# Altium footprint library Resistor_THT.PcbLib: 104 footprints (part 1 of 7)
Each footprint in its own frame and in the unit in brackets; x right, y up, seen from the top. Pads: shape width x height; smd on the part's side, far side on the other; paste and mask are expansions set on the pad; w line width, h text height; cw(c..) or ccw(c..) is an arc to the next point about the centre after c.
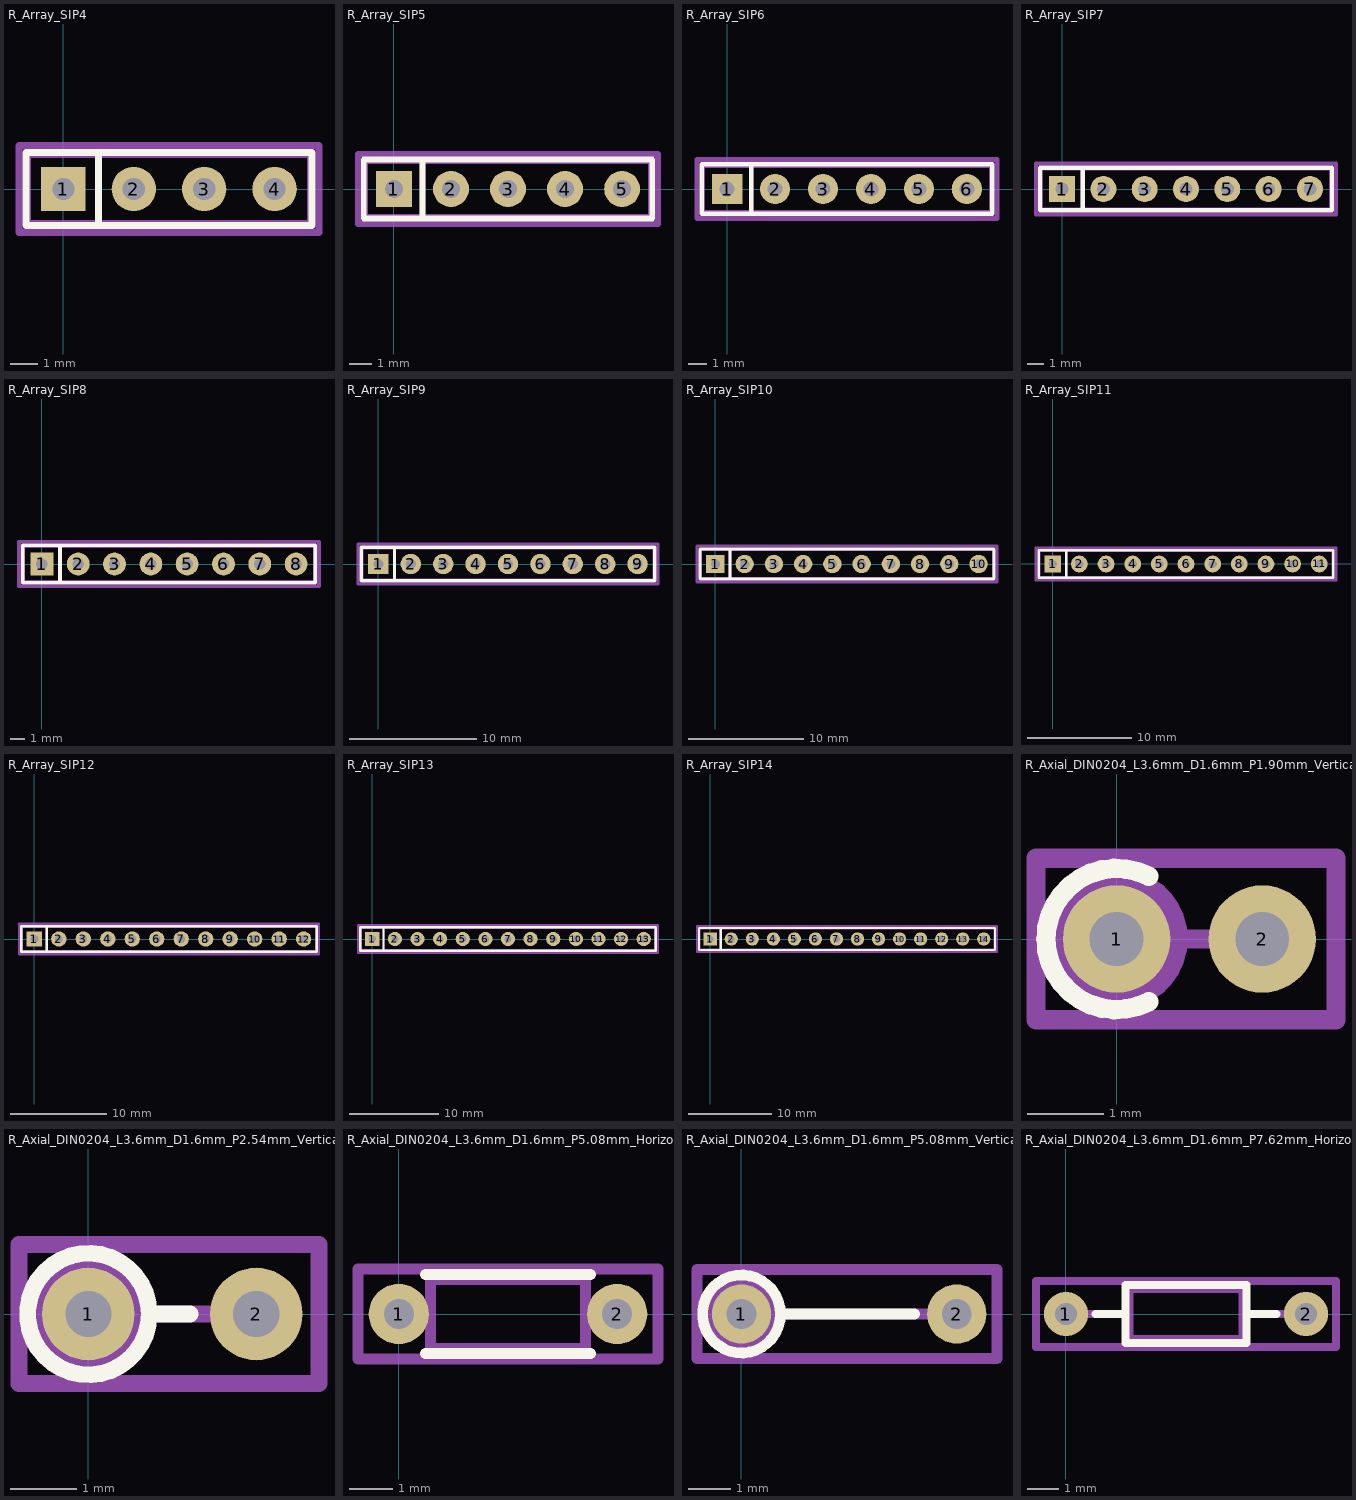
[diagram p0: the footprints below, top view; thin cyan lines are the x and y axes]

## R_Array_SIP4 [mm]
pads (4):
  rect 1.6x1.6 hole 0.8: 1(0,0)
  round 1.6 hole 0.8: 2(2.54,0) 3(5.08,0) 4(7.62,0)
F.SilkS:
  lines w0.254: 1.27,-1.31 1.27,1.31 ; -1.35,-1.31 -1.35,1.31 8.97,1.31 8.97,-1.31 -1.35,-1.31
F.Fab:
  lines w0.254: 1.27,-1.25 1.27,1.25 ; -1.29,-1.25 -1.29,1.25 8.91,1.25 8.91,-1.25 -1.29,-1.25
  text "'.Designator'" at 1.033,-0.84 h1
F.CrtYd:
  lines w0.254: -1.6,-1.56 -1.6,1.56 9.22,1.56 9.22,-1.56 -1.6,-1.56
3D body "R_Array_SIP4.step": height 5.3, standoff -3, extent -1.27,-1.26 8.89,1.25

## R_Array_SIP5 [mm]
pads (5):
  rect 1.6x1.6 hole 0.8: 1(0,0)
  round 1.6 hole 0.8: 2(2.54,0) 3(5.08,0) 4(7.62,0) 5(10.16,0)
F.SilkS:
  lines w0.254: 1.27,-1.31 1.27,1.31 ; -1.35,-1.31 -1.35,1.31 11.51,1.31 11.51,-1.31 -1.35,-1.31
F.Fab:
  lines w0.254: 1.27,-1.25 1.27,1.25 ; -1.29,-1.25 -1.29,1.25 11.45,1.25 11.45,-1.25 -1.29,-1.25
  text "'.Designator'" at 2.303,-0.84 h1
F.CrtYd:
  lines w0.254: -1.6,-1.56 -1.6,1.56 11.76,1.56 11.76,-1.56 -1.6,-1.56
3D body "R_Array_SIP5.step": height 5.3, standoff -3, extent -1.27,-1.26 11.43,1.25

## R_Array_SIP6 [mm]
pads (6):
  rect 1.6x1.6 hole 0.8: 1(0,0)
  round 1.6 hole 0.8: 2(2.54,0) 3(5.08,0) 4(7.62,0) 5(10.16,0) 6(12.7,0)
F.SilkS:
  lines w0.254: 1.27,-1.31 1.27,1.31 ; -1.35,-1.31 -1.35,1.31 14.05,1.31 14.05,-1.31 -1.35,-1.31
F.Fab:
  lines w0.254: 1.27,-1.25 1.27,1.25 ; -1.29,-1.25 -1.29,1.25 13.99,1.25 13.99,-1.25 -1.29,-1.25
  text "'.Designator'" at 3.573,-0.84 h1
F.CrtYd:
  lines w0.254: -1.6,-1.56 -1.6,1.56 14.3,1.56 14.3,-1.56 -1.6,-1.56
3D body "R_Array_SIP6.step": height 5.3, standoff -3, extent -1.27,-1.26 13.97,1.25

## R_Array_SIP7 [mm]
pads (7):
  rect 1.6x1.6 hole 0.8: 1(0,0)
  round 1.6 hole 0.8: 2(2.54,0) 3(5.08,0) 4(7.62,0) 5(10.16,0) 6(12.7,0) 7(15.24,0)
F.SilkS:
  lines w0.254: 1.27,-1.31 1.27,1.31 ; -1.35,-1.31 -1.35,1.31 16.59,1.31 16.59,-1.31 -1.35,-1.31
F.Fab:
  lines w0.254: 1.27,-1.25 1.27,1.25 ; -1.29,-1.25 -1.29,1.25 16.53,1.25 16.53,-1.25 -1.29,-1.25
  text "'.Designator'" at 4.843,-0.84 h1
F.CrtYd:
  lines w0.254: -1.6,-1.56 -1.6,1.56 16.84,1.56 16.84,-1.56 -1.6,-1.56
3D body "R_Array_SIP7.step": height 5.3, standoff -3, extent -1.27,-1.26 16.51,1.25

## R_Array_SIP8 [mm]
pads (8):
  rect 1.6x1.6 hole 0.8: 1(0,0)
  round 1.6 hole 0.8: 2(2.54,0) 3(5.08,0) 4(7.62,0) 5(10.16,0) 6(12.7,0) 7(15.24,0) 8(17.78,0)
F.SilkS:
  lines w0.254: 1.27,-1.31 1.27,1.31 ; -1.35,-1.31 -1.35,1.31 19.13,1.31 19.13,-1.31 -1.35,-1.31
F.Fab:
  lines w0.254: 1.27,-1.25 1.27,1.25 ; -1.29,-1.25 -1.29,1.25 19.07,1.25 19.07,-1.25 -1.29,-1.25
  text "'.Designator'" at 6.113,-0.84 h1
F.CrtYd:
  lines w0.254: -1.6,-1.56 -1.6,1.56 19.38,1.56 19.38,-1.56 -1.6,-1.56
3D body "R_Array_SIP8.step": height 5.3, standoff -3, extent -1.27,-1.26 19.05,1.25

## R_Array_SIP9 [mm]
pads (9):
  rect 1.6x1.6 hole 0.8: 1(0,0)
  round 1.6 hole 0.8: 2(2.54,0) 3(5.08,0) 4(7.62,0) 5(10.16,0) 6(12.7,0) 7(15.24,0) 8(17.78,0) 9(20.32,0)
F.SilkS:
  lines w0.254: 1.27,-1.31 1.27,1.31 ; -1.35,-1.31 -1.35,1.31 21.67,1.31 21.67,-1.31 -1.35,-1.31
F.Fab:
  lines w0.254: 1.27,-1.25 1.27,1.25 ; -1.29,-1.25 -1.29,1.25 21.61,1.25 21.61,-1.25 -1.29,-1.25
  text "'.Designator'" at 7.383,-0.84 h1
F.CrtYd:
  lines w0.254: -1.6,-1.56 -1.6,1.56 21.92,1.56 21.92,-1.56 -1.6,-1.56
3D body "R_Array_SIP9.step": height 5.3, standoff -3, extent -1.27,-1.26 21.59,1.25

## R_Array_SIP10 [mm]
pads (10):
  rect 1.6x1.6 hole 0.8: 1(0,0)
  round 1.6 hole 0.8: 2(2.54,0) 3(5.08,0) 4(7.62,0) 5(10.16,0) 6(12.7,0) 7(15.24,0) 8(17.78,0) 9(20.32,0) 10(22.86,0)
F.SilkS:
  lines w0.254: 1.27,-1.31 1.27,1.31 ; -1.35,-1.31 -1.35,1.31 24.21,1.31 24.21,-1.31 -1.35,-1.31
F.Fab:
  lines w0.254: 1.27,-1.25 1.27,1.25 ; -1.29,-1.25 -1.29,1.25 24.15,1.25 24.15,-1.25 -1.29,-1.25
  text "'.Designator'" at 8.653,-0.84 h1
F.CrtYd:
  lines w0.254: -1.6,-1.56 -1.6,1.56 24.46,1.56 24.46,-1.56 -1.6,-1.56
3D body "R_Array_SIP10.step": height 5.3, standoff -3, extent -1.27,-1.26 24.13,1.25

## R_Array_SIP11 [mm]
pads (11):
  rect 1.6x1.6 hole 0.8: 1(0,0)
  round 1.6 hole 0.8: 2(2.54,0) 3(5.08,0) 4(7.62,0) 5(10.16,0) 6(12.7,0) 7(15.24,0) 8(17.78,0) 9(20.32,0) 10(22.86,0) 11(25.4,0)
F.SilkS:
  lines w0.254: 1.27,-1.31 1.27,1.31 ; -1.35,-1.31 -1.35,1.31 26.75,1.31 26.75,-1.31 -1.35,-1.31
F.Fab:
  lines w0.254: 1.27,-1.25 1.27,1.25 ; -1.29,-1.25 -1.29,1.25 26.69,1.25 26.69,-1.25 -1.29,-1.25
  text "'.Designator'" at 9.923,-0.84 h1
F.CrtYd:
  lines w0.254: -1.6,-1.56 -1.6,1.56 27,1.56 27,-1.56 -1.6,-1.56
3D body "R_Array_SIP11.step": height 5.3, standoff -3, extent -1.27,-1.26 26.67,1.25

## R_Array_SIP12 [mm]
pads (12):
  rect 1.6x1.6 hole 0.8: 1(0,0)
  round 1.6 hole 0.8: 2(2.54,0) 3(5.08,0) 4(7.62,0) 5(10.16,0) 6(12.7,0) 7(15.24,0) 8(17.78,0) 9(20.32,0) 10(22.86,0) 11(25.4,0) 12(27.94,0)
F.SilkS:
  lines w0.254: 1.27,-1.31 1.27,1.31 ; -1.35,-1.31 -1.35,1.31 29.29,1.31 29.29,-1.31 -1.35,-1.31
F.Fab:
  lines w0.254: 1.27,-1.25 1.27,1.25 ; -1.29,-1.25 -1.29,1.25 29.23,1.25 29.23,-1.25 -1.29,-1.25
  text "'.Designator'" at 11.193,-0.84 h1
F.CrtYd:
  lines w0.254: -1.6,-1.56 -1.6,1.56 29.54,1.56 29.54,-1.56 -1.6,-1.56
3D body "R_Array_SIP12.step": height 5.3, standoff -3, extent -1.27,-1.26 29.21,1.25

## R_Array_SIP13 [mm]
pads (13):
  rect 1.6x1.6 hole 0.8: 1(0,0)
  round 1.6 hole 0.8: 2(2.54,0) 3(5.08,0) 4(7.62,0) 5(10.16,0) 6(12.7,0) 7(15.24,0) 8(17.78,0) 9(20.32,0) 10(22.86,0) 11(25.4,0) 12(27.94,0) 13(30.48,0)
F.SilkS:
  lines w0.254: 1.27,-1.31 1.27,1.31 ; -1.35,-1.31 -1.35,1.31 31.83,1.31 31.83,-1.31 -1.35,-1.31
F.Fab:
  lines w0.254: 1.27,-1.25 1.27,1.25 ; -1.29,-1.25 -1.29,1.25 31.77,1.25 31.77,-1.25 -1.29,-1.25
  text "'.Designator'" at 12.463,-0.84 h1
F.CrtYd:
  lines w0.254: -1.6,-1.56 -1.6,1.56 32.08,1.56 32.08,-1.56 -1.6,-1.56
3D body "R_Array_SIP13.step": height 5.3, standoff -3, extent -1.27,-1.26 31.75,1.25

## R_Array_SIP14 [mm]
pads (14):
  rect 1.6x1.6 hole 0.8: 1(0,0)
  round 1.6 hole 0.8: 2(2.54,0) 3(5.08,0) 4(7.62,0) 5(10.16,0) 6(12.7,0) 7(15.24,0) 8(17.78,0) 9(20.32,0) 10(22.86,0) 11(25.4,0) 12(27.94,0) 13(30.48,0) 14(33.02,0)
F.SilkS:
  lines w0.254: 1.27,-1.31 1.27,1.31 ; -1.35,-1.31 -1.35,1.31 34.37,1.31 34.37,-1.31 -1.35,-1.31
F.Fab:
  lines w0.254: 1.27,-1.25 1.27,1.25 ; -1.29,-1.25 -1.29,1.25 34.31,1.25 34.31,-1.25 -1.29,-1.25
  text "'.Designator'" at 13.733,-0.84 h1
F.CrtYd:
  lines w0.254: -1.6,-1.56 -1.6,1.56 34.62,1.56 34.62,-1.56 -1.6,-1.56
3D body "R_Array_SIP14.step": height 5.3, standoff -3, extent -1.27,-1.26 34.29,1.25

## R_Axial_DIN0204_L3.6mm_D1.6mm_P1.90mm_Vertical [mm]
pads (2):
  round 1.4 hole 0.7: 1(0,0) 2(1.9,0)
F.SilkS:
  lines w0.254: 0.417,-0.82 cw(c0,0) 0.417,0.82
F.Fab:
  circle w0.254: c0,0 r0.8
  lines w0.254: 0,0 1.9,0
  text "'.Designator'" at -3.097,1.08 h1
F.CrtYd:
  lines w0.254: -1.05,-1.05 -1.05,1.05 2.86,1.05 2.86,-1.05 -1.05,-1.05
3D body "R_Axial_DIN0204_L3.6mm_D1.6mm_P1.90mm_Vertical.step": height 6.6, standoff -3, extent -0.794,-0.798 2.148,0.798

## R_Axial_DIN0204_L3.6mm_D1.6mm_P2.54mm_Vertical [mm]
pads (2):
  round 1.4 hole 0.7: 1(0,0) 2(2.54,0)
F.SilkS:
  circle w0.254: c0,0 r0.92
  lines w0.254: 0.92,0 1.54,0
F.Fab:
  circle w0.254: c0,0 r0.8
  lines w0.254: 0,0 2.54,0
  text "'.Designator'" at -2.777,1.08 h1
F.CrtYd:
  lines w0.254: -1.05,-1.05 -1.05,1.05 3.49,1.05 3.49,-1.05 -1.05,-1.05
3D body "R_Axial_DIN0204_L3.6mm_D1.6mm_P2.54mm_Vertical.step": height 6.6, standoff -3, extent -0.794,-0.798 2.788,0.798

## R_Axial_DIN0204_L3.6mm_D1.6mm_P5.08mm_Horizontal [mm]
pads (2):
  round 1.4 hole 0.7: 1(0,0) 2(5.08,0)
F.SilkS:
  lines w0.254: 0.62,-0.92 4.46,-0.92 ; 0.62,0.92 4.46,0.92
F.Fab:
  lines w0.254: 0,0 0.74,0 ; 4.34,0 5.08,0 ; 0.74,-0.8 0.74,0.8 4.34,0.8 4.34,-0.8 0.74,-0.8
  text "'.Designator'" at -0.374,-0.605 h0.72
F.CrtYd:
  lines w0.254: -0.95,-1.05 -0.95,1.05 6.03,1.05 6.03,-1.05 -0.95,-1.05
3D body "R_Axial_DIN0204_L3.6mm_D1.6mm_P5.08mm_Horizontal.step": height 1.6, standoff -3, extent -0.248,-0.794 5.328,0.8

## R_Axial_DIN0204_L3.6mm_D1.6mm_P5.08mm_Vertical [mm]
pads (2):
  round 1.4 hole 0.7: 1(0,0) 2(5.08,0)
F.SilkS:
  circle w0.254: c0,0 r0.92
  lines w0.254: 0.92,0 4.08,0
F.Fab:
  circle w0.254: c0,0 r0.8
  lines w0.254: 0,0 5.08,0
  text "'.Designator'" at -1.507,1.08 h1
F.CrtYd:
  lines w0.254: -1.05,-1.05 -1.05,1.05 6.03,1.05 6.03,-1.05 -1.05,-1.05
3D body "R_Axial_DIN0204_L3.6mm_D1.6mm_P5.08mm_Vertical.step": height 6.6, standoff -3, extent -0.794,-0.798 5.328,0.798

## R_Axial_DIN0204_L3.6mm_D1.6mm_P7.62mm_Horizontal [mm]
pads (2):
  round 1.4 hole 0.7: 1(0,0) 2(7.62,0)
F.SilkS:
  lines w0.254: 0.94,0 1.89,0 ; 5.73,0 6.68,0 ; 1.89,-0.92 1.89,0.92 5.73,0.92 5.73,-0.92 1.89,-0.92
F.Fab:
  lines w0.254: 0,0 2.01,0 ; 5.61,0 7.62,0 ; 2.01,-0.8 2.01,0.8 5.61,0.8 5.61,-0.8 2.01,-0.8
  text "'.Designator'" at 0.896,-0.605 h0.72
F.CrtYd:
  lines w0.254: -0.95,-1.05 -0.95,1.05 8.57,1.05 8.57,-1.05 -0.95,-1.05
3D body "R_Axial_DIN0204_L3.6mm_D1.6mm_P7.62mm_Horizontal.step": height 1.6, standoff -3, extent -0.248,-0.794 7.868,0.8